# EAGLE library part ZXBM5210-S-13 (library RoboJackets-ICs)
IC MOTOR DRIVER 3V-18V 8SO DKPN: ZXBM5210-S-13DICT-ND
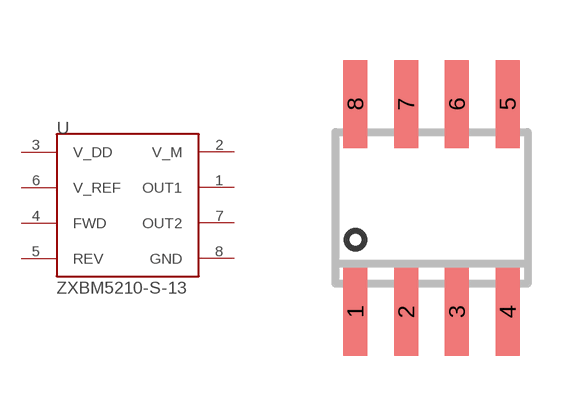
[diagram p24: symbol with the pads of SOIC-8; footprint SOIC-8]

Designator prefix U

## ZXBM5210-S-13  [SOIC-8]
1  OUT1  out
2  V_M  pwr
3  V_DD  pwr
4  FWD  in
5  REV  in
6  V_REF  in
7  OUT2  out
8  GND  pwr

## Footprint SOIC-8 (pad centres in mm)
SMALL OUTLINE INTEGRATED CIRCUIT body 3.9 mm/JEDEC MS-012AA
smd 0.6 x 2.2: 1 -1.905,-2.6; 2 -0.635,-2.6; 3 0.635,-2.6; 4 1.905,-2.6; 5 1.905,2.6; 6 0.635,2.6; 7 -0.635,2.6; 8 -1.905,2.6